# EAGLE library part BH1749NUC (library BH1749NUC)
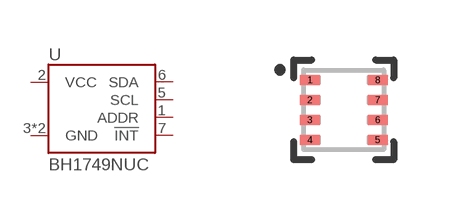
[diagram p0: symbol with the pads of BH1749NUC; footprint BH1749NUC]

Designator prefix U

## BH1749NUC  [BH1749NUC]
1  ADDR
2  VCC
3  GND
4  GND
5  SCL
6  SDA
7  !INT

## Footprint BH1749NUC (pad centres in mm)
smd 0.5 x 0.25: 1 -0.85,0.75; 2 -0.85,0.25; 3 -0.85,-0.25; 4 -0.85,-0.75; 5 0.85,-0.75; 6 0.85,-0.25; 7 0.85,0.25; 8 0.85,0.75